# Altium schematic symbol library Generic components.SchLib: 10 symbols
Pins are listed as number, name and electrical type; pins without a type are passive.

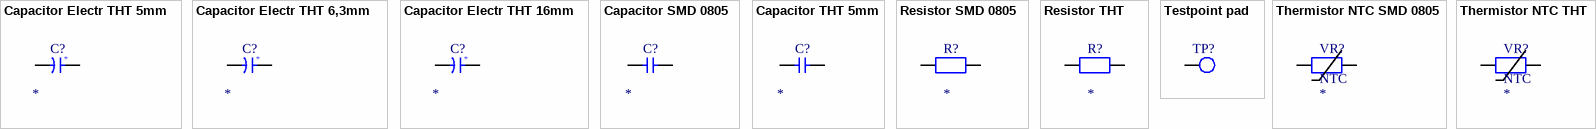
[diagram p0: symbols Capacitor Electr THT 5mm to Thermistor NTC THT]

## Capacitor Electr THT 5mm
designator C?, comment CAP  (value not drawn)
THT Electrolytic Capacitor 5 mm Diameter; Voltage rating: *; Tolerance: *; Package Type: THT; Value: *
footprint Cap electrolytic THT 5mm (THT electrolytic capacitor 5 mm diameter)
pins: 1, 2
text: +

## Capacitor Electr THT 6,3mm
designator C?, comment CAP  (value not drawn)
THT Electrolytic Capacitor 6,3 mm Diameter; Voltage rating: *; Tolerance: *; Package Type: THT; Value: *
footprint Cap electrolytic THT 6,3mm (THT electrolytic capacitor 6,3 mm diameter)
pins: 1, 2
text: +

## Capacitor Electr THT 16mm
designator C?, comment CAP  (value not drawn)
THT Electrolytic Capacitor 16 mm Diameter; Voltage rating: *; Tolerance: *; Package Type: THT; Value: *
footprint Cap electrolytic THT 16mm
pins: 1, 2
text: +

## Capacitor SMD 0805
designator C?, comment CAP  (value not drawn)
SMD Capacitor Non-Polarised 0805 Package; Voltage rating: *; Tolerance: *; Package Type: SMD; Value: *
footprint Cap SMD 0805 (SMD non polarised 0805 capacitor)
pins: 1, 2

## Capacitor THT 5mm
designator C?, comment CAP  (value not drawn)
THT Capacitor Non-Polarised 5 mm Pitch; Voltage rating: *; Tolerance: *; Package Type: THT; Value: *
footprint Cap THT 5mm (THT ceramic capacitor 5 mm pitch)
pins: 1, 2

## Resistor SMD 0805
designator R?, comment RES  (value not drawn)
SMD Resistor 0805 package; Tolerance: *; Package Type: SMD; Value: *
footprint Resistor SMD 0805 (SMD resistor 0805 package)
pins: 1, 2

## Resistor THT
designator R?, comment RES  (value not drawn)
THT Axial Resistor 10mm Pitch; Tolerance: *; Package Type: THT; Value: *
footprint Resistor THT 10mm (THT axial resistor 10 mm pitch)
footprint Resistor THT vertical (THT axial resistor 10 mm pitch)
pins: 1, 2

## Testpoint pad
designator TP?, comment Testpoint PAD  (value not drawn)
Testpoint SMD pad
footprint Testpoint SMD pad
pins: 1

## Thermistor NTC SMD 0805
designator VR?, comment NTC
SMD NTC Thermistor 0805 package; Tolerance: *; Package Type: SMD; Value: *
footprint Thermistor SMD 0805 (SMD thermistor 0805 package)
pins: 1, 2

## Thermistor NTC THT
designator VR?, comment NTC
THT NTC Thermistor 2,54 mm Pitch; Tolerance: *; Package Type: THT; Value: *
footprint THERMISTOR THT 2,54 MM
pins: 1, 2